# Altium footprint library MUR1520G.PcbLib: 1 footprints
Each footprint in its own frame and in the unit in brackets; x right, y up, seen from the top. Pads: shape width x height; smd on the part's side, far side on the other; paste and mask are expansions set on the pad; w line width, h text height; cw(c..) or ccw(c..) is an arc to the next point about the centre after c.
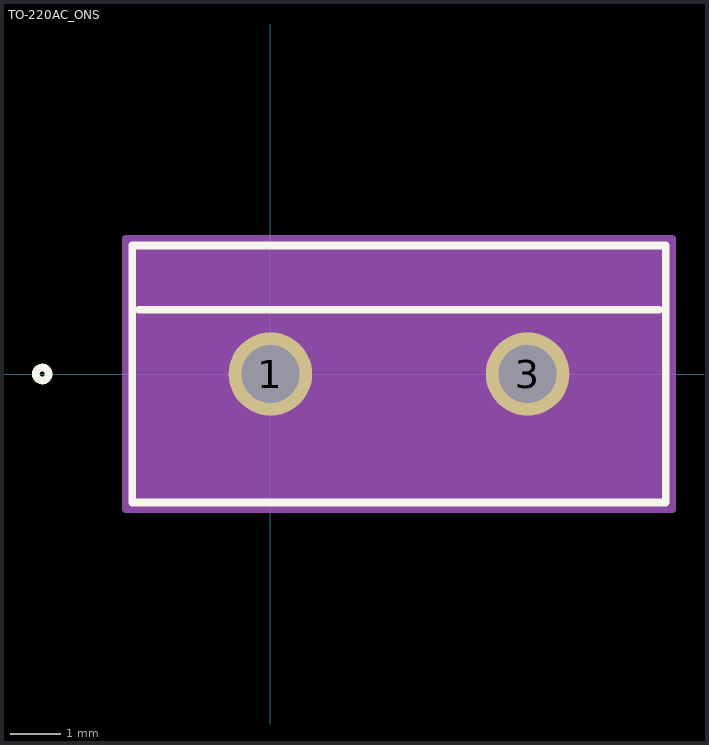
[diagram p0: the footprint, top view; thin cyan lines are the x and y axes]

## TO-220AC_ONS [mil]
pads (2):
  round 65 / inner round 60 / far side round 65 hole 45 paste-99999 mask+0: 1(0,0) 3(200,0)
Top Overlay:
  circle w6: c-177.5,0 r5
  lines w6: -102.5,50 302.5,50 ; -107.5,-100 -107.5,100 307.5,100 307.5,-100 -107.5,-100
Mechanical 13:
  circle w0: c-92.5,0 r5
  lines w1: -102.5,45 302.5,45 ; -102.5,-95 -102.5,95 302.5,95 302.5,-95 -102.5,-95
  text "TAB" at 81.25,57.5 h25
Mechanical 15:
  region: 312.5,105 -112.5,105 -112.5,-105 312.5,-105
  lines w6: -112.5,-105 312.5,-105 312.5,105 -112.5,105 -112.5,-105
3D body "Heat Sink.step": height 985.15, standoff -156.98, extent -342.75,-175 562.75,454.92
3D body "3D Model.step": height 850, standoff -332, extent -86.25,-80.25 306.25,94.75